# Altium schematic symbol library IC.SchLib: 86 symbols
Pins are listed as number, name and electrical type; pins without a type are passive.

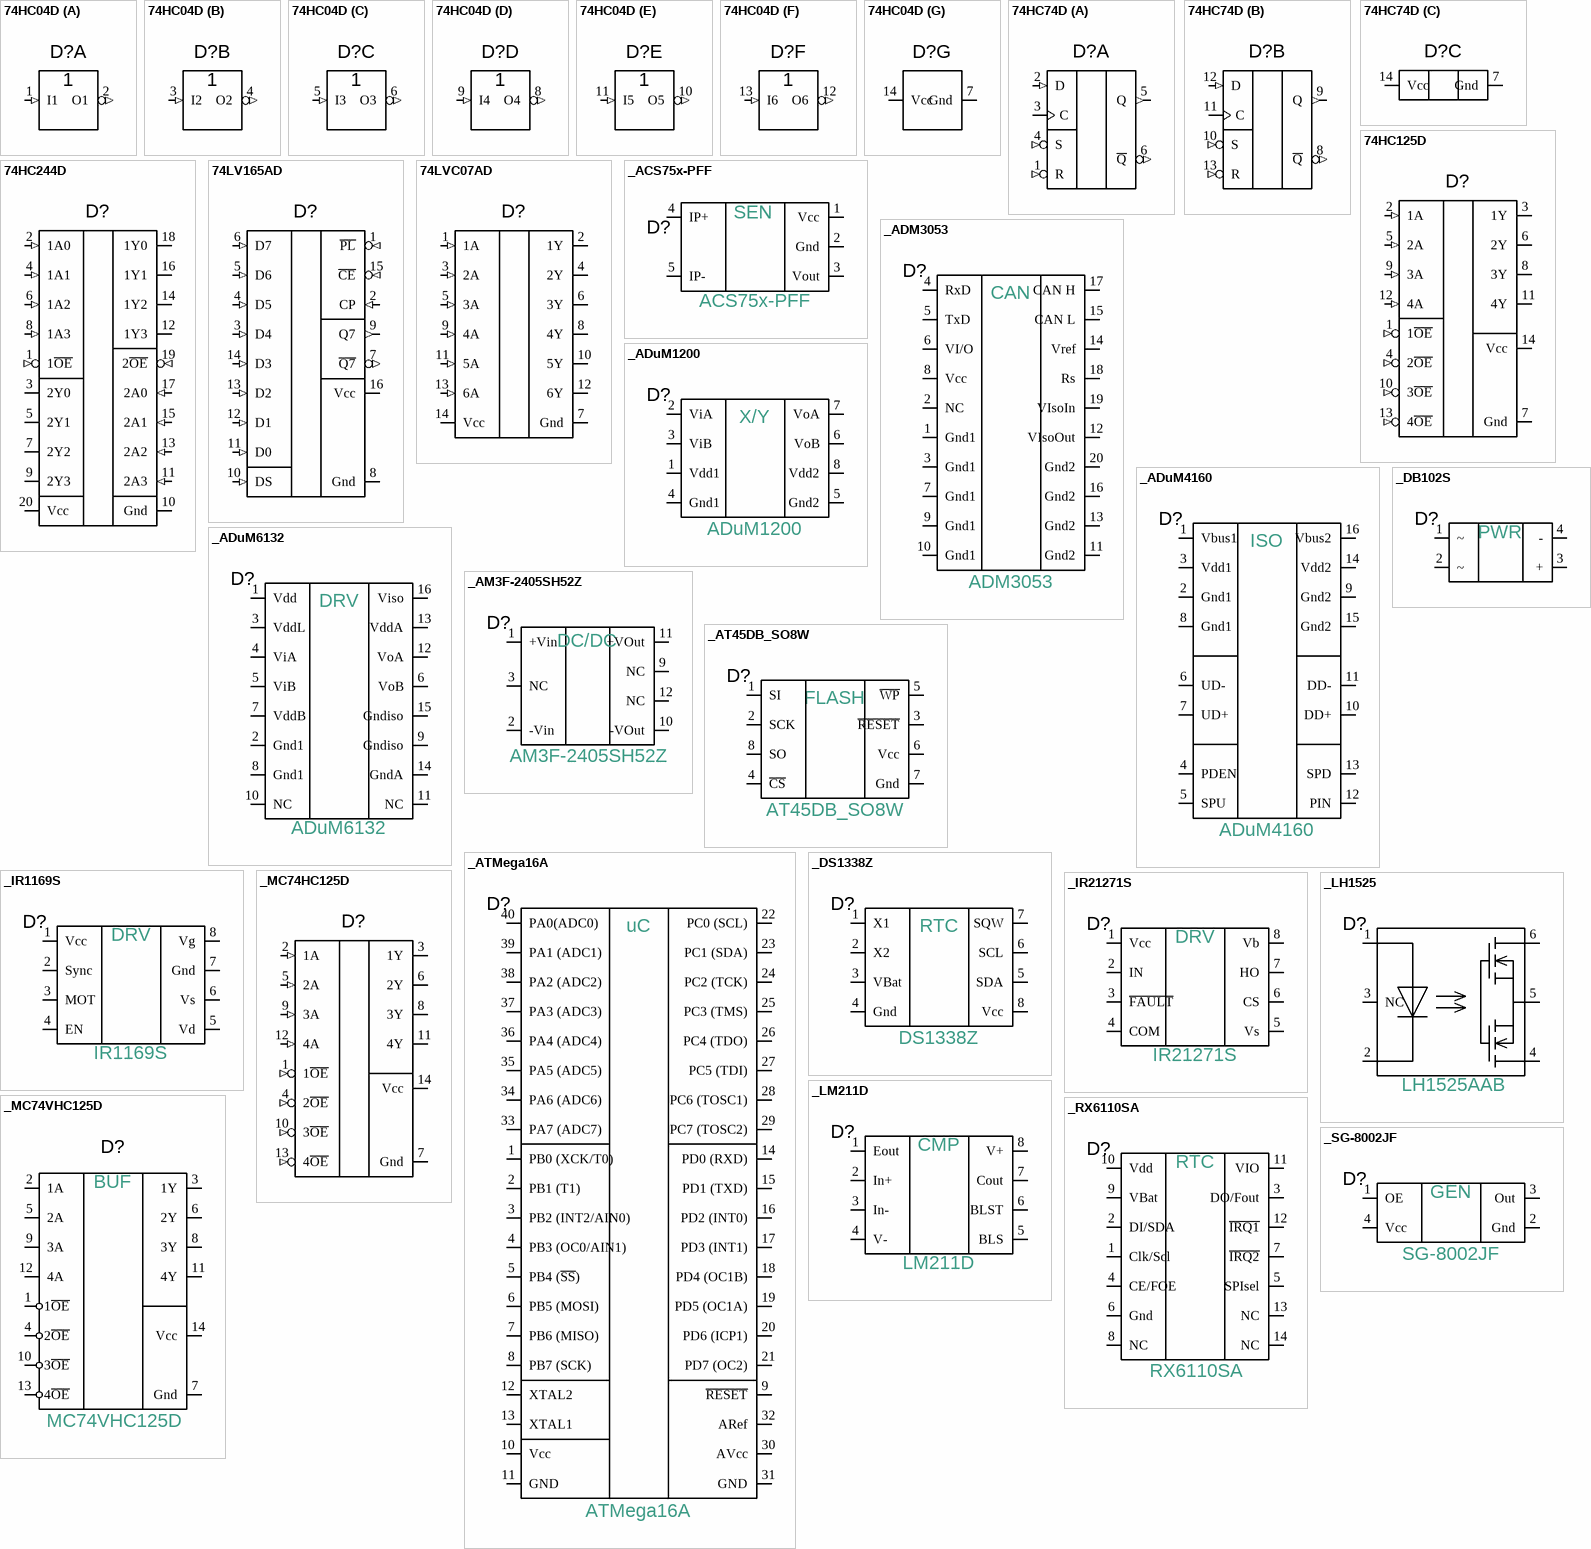
[diagram p0: symbols 74HC04D to _SG-8002JF]

## 74HC04D
designator D?
part A pins: 1 I1 (in), 2 O1 (out)
part B pins: 3 I2 (in), 4 O2 (out)
part C pins: 5 I3 (in), 6 O3 (out)
part D pins: 8 O4 (out), 9 I4 (in)
part E pins: 10 O5 (out), 11 I5 (in)
part F pins: 12 O6 (out), 13 I6 (in)
part G pins: 7 Gnd (power), 14 Vcc (power)

## 74HC74D
designator D?
part A pins: 1 R (in), 2 D (in), 3 C, 4 S (in), 5 Q (out), 6 ~{Q} (out)
part B pins: 8 ~{Q} (out), 9 Q (out), 10 S (in), 11 C, 12 D (in), 13 R (in)
part C pins: 7 Gnd (power), 14 Vcc (power)

## 74HC125D
designator D?  (value not drawn)
pins: 1 1~{OE} (in), 2 1A (in), 3 1Y (hiz), 4 2~{OE} (in), 5 2A (in), 6 2Y (hiz), 7 Gnd (power), 8 3Y (hiz), 9 3A (in), 10 3~{OE} (in), 11 4Y (hiz), 12 4A (in), 13 4~{OE} (in), 14 Vcc (power)

## 74HC244D
designator D?  (value not drawn)
pins: 1 1~{OE} (in), 2 1A0 (in), 3 2Y0 (hiz), 4 1A1 (in), 5 2Y1 (hiz), 6 1A2 (in), 7 2Y2 (hiz), 8 1A3 (in), 9 2Y3 (hiz), 10 Gnd (power), 11 2A3 (in), 12 1Y3 (hiz), 13 2A2 (in), 14 1Y2 (hiz), 15 2A1 (in), 16 1Y1 (hiz), 17 2A0 (in), 18 1Y0 (hiz), 19 2~{OE} (in), 20 Vcc (power)

## 74LV165AD
designator D?
pins: 1 ~{PL} (in), 2 CP (in), 3 D4 (in), 4 D5 (in), 5 D6 (in), 6 D7 (in), 7 ~{Q7} (out), 8 Gnd (power), 9 Q7 (out), 10 DS (in), 11 D0 (in), 12 D1 (in), 13 D2 (in), 14 D3 (in), 15 ~{CE} (in), 16 Vcc (power)

## 74LVC07AD
designator D?  (value not drawn)
pins: 1 1A (in), 2 1Y (oc), 3 2A (in), 4 2Y (oc), 5 3A (in), 6 3Y (oc), 7 Gnd (power), 8 4Y (oc), 9 4A (in), 10 5Y (oc), 11 5A (in), 12 6Y (oc), 13 6A (in), 14 Vcc (power)

## _ACS75x-PFF
designator D?
pins: 1 Vcc, 2 Gnd, 3 Vout, 4 IP+, 5 IP-
text: SEN; ACS75x-PFF

## _ADM3053
designator D?
pins: 1 Gnd1, 2 NC, 3 Gnd1, 4 RxD, 5 TxD, 6 VI/O, 7 Gnd1, 8 Vcc, 9 Gnd1, 10 Gnd1, 11 Gnd2, 12 VIsoOut, 13 Gnd2, 14 Vref, 15 CAN L, 16 Gnd2, 17 CAN H, 18 Rs, 19 VIsoIn, 20 Gnd2
text: CAN; ADM3053

## _ADuM1200
designator D?
pins: 1 Vdd1, 2 ViA, 3 ViB, 4 Gnd1, 5 Gnd2, 6 VoB, 7 VoA, 8 Vdd2
text: X/Y; ADuM1200

## _ADuM4160
designator D?
pins: 1 Vbus1, 2 Gnd1, 3 Vdd1, 4 PDEN, 5 SPU, 6 UD-, 7 UD+, 8 Gnd1, 9 Gnd2, 10 DD+, 11 DD-, 12 PIN, 13 SPD, 14 Vdd2, 15 Gnd2, 16 Vbus2
text: ISO; ADuM4160

## _ADuM6132
designator D?
pins: 1 Vdd, 2 Gnd1, 3 VddL, 4 ViA, 5 ViB, 6 VoB, 7 VddB, 8 Gnd1, 9 Gndiso, 10 NC, 11 NC, 12 VoA, 13 VddA, 14 GndA, 15 Gndiso, 16 Viso
text: DRV; ADuM6132

## _AM3F-2405SH52Z
designator D?
pins: 1 +Vin, 2 -Vin, 3 NC, 9 NC, 10 -VOut, 11 +VOut, 12 NC
text: DC/DC; AM3F-2405SH52Z

## _AT45DB_SO8W
designator D?
pins: 1 SI, 2 SCK, 3 ~{RESET}, 4 ~{CS}, 5 ~{WP}, 6 Vcc, 7 Gnd, 8 SO
text: FLASH; AT45DB_SO8W

## _ATMega16A
designator D?
pins: 1 PB0 (XCK/T0), 2 PB1 (T1), 3 PB2 (INT2/AIN0), 4 PB3 (OC0/AIN1), 5 PB4 (~{SS}), 6 PB5 (MOSI), 7 PB6 (MISO), 8 PB7 (SCK), 9 ~{RESET}, 10 Vcc, 11 GND, 12 XTAL2, 13 XTAL1, 14 PD0 (RXD), 15 PD1 (TXD), 16 PD2 (INT0), 17 PD3 (INT1), 18 PD4 (OC1B), 19 PD5 (OC1A), 20 PD6 (ICP1), 21 PD7 (OC2), 22 PC0 (SCL), 23 PC1 (SDA), 24 PC2 (TCK), 25 PC3 (TMS), 26 PC4 (TDO), 27 PC5 (TDI), 28 PC6 (TOSC1), 29 PC7 (TOSC2), 30 AVcc, 31 GND, 32 ARef, 33 PA7 (ADC7), 34 PA6 (ADC6), 35 PA5 (ADC5), 36 PA4 (ADC4), 37 PA3 (ADC3), 38 PA2 (ADC2), 39 PA1 (ADC1), 40 PA0(ADC0)
text: uC; ATMega16A

## _DB102S
designator D?  (value not drawn)
pins: 1 ~, 2 ~, 3 +, 4 -
text: PWR

## _DS1338Z
designator D?
pins: 1 X1, 2 X2, 3 VBat, 4 Gnd, 5 SDA, 6 SCL, 7 SQW, 8 Vcc
text: RTC; DS1338Z

## _IR1169S
designator D?
pins: 1 Vcc, 2 Sync, 3 MOT, 4 EN, 5 Vd, 6 Vs, 7 Gnd, 8 Vg
text: DRV; IR1169S

## _IR21271S
designator D?
pins: 1 Vcc, 2 IN, 3 ~{FAULT}, 4 COM, 5 Vs, 6 CS, 7 HO, 8 Vb
text: DRV; IR21271S

## _LH1525
designator D?
pins: 1 A, 2 K, 3 NC, 4 S', 5 DC, 6 S
text: LH1525AAB

## _LM211D
designator D?
pins: 1 Eout, 2 In+, 3 In-, 4 V-, 5 BLS, 6 BLST, 7 Cout, 8 V+
text: CMP; LM211D

## _MC74HC125D
designator D?
pins: 1 1~{OE} (in), 2 1A (in), 3 1Y (hiz), 4 2~{OE} (in), 5 2A (in), 6 2Y (hiz), 7 Gnd (power), 8 3Y (hiz), 9 3A (in), 10 3~{OE} (in), 11 4Y (hiz), 12 4A (in), 13 4~{OE} (in), 14 Vcc (power)

## _MC74VHC125D
designator D?
pins: 1 1~{OE}, 2 1A, 3 1Y, 4 2~{OE}, 5 2A, 6 2Y, 7 Gnd, 8 3Y, 9 3A, 10 3~{OE}, 11 4Y, 12 4A, 13 4~{OE}, 14 Vcc
text: BUF; MC74VHC125D

## _RX6110SA
designator D?
pins: 1 Clk/Scl, 2 DI/SDA, 3 DO/Fout, 4 CE/FOE, 5 SPIsel, 6 Gnd, 7 ~{IRQ2}, 8 NC, 9 VBat, 10 Vdd, 11 VIO, 12 ~{IRQ1}, 13 NC, 14 NC
text: RTC; RX6110SA

## _SG-8002JF
designator D?
pins: 1 OE, 2 Gnd, 3 Out, 4 Vcc
text: GEN; SG-8002JF

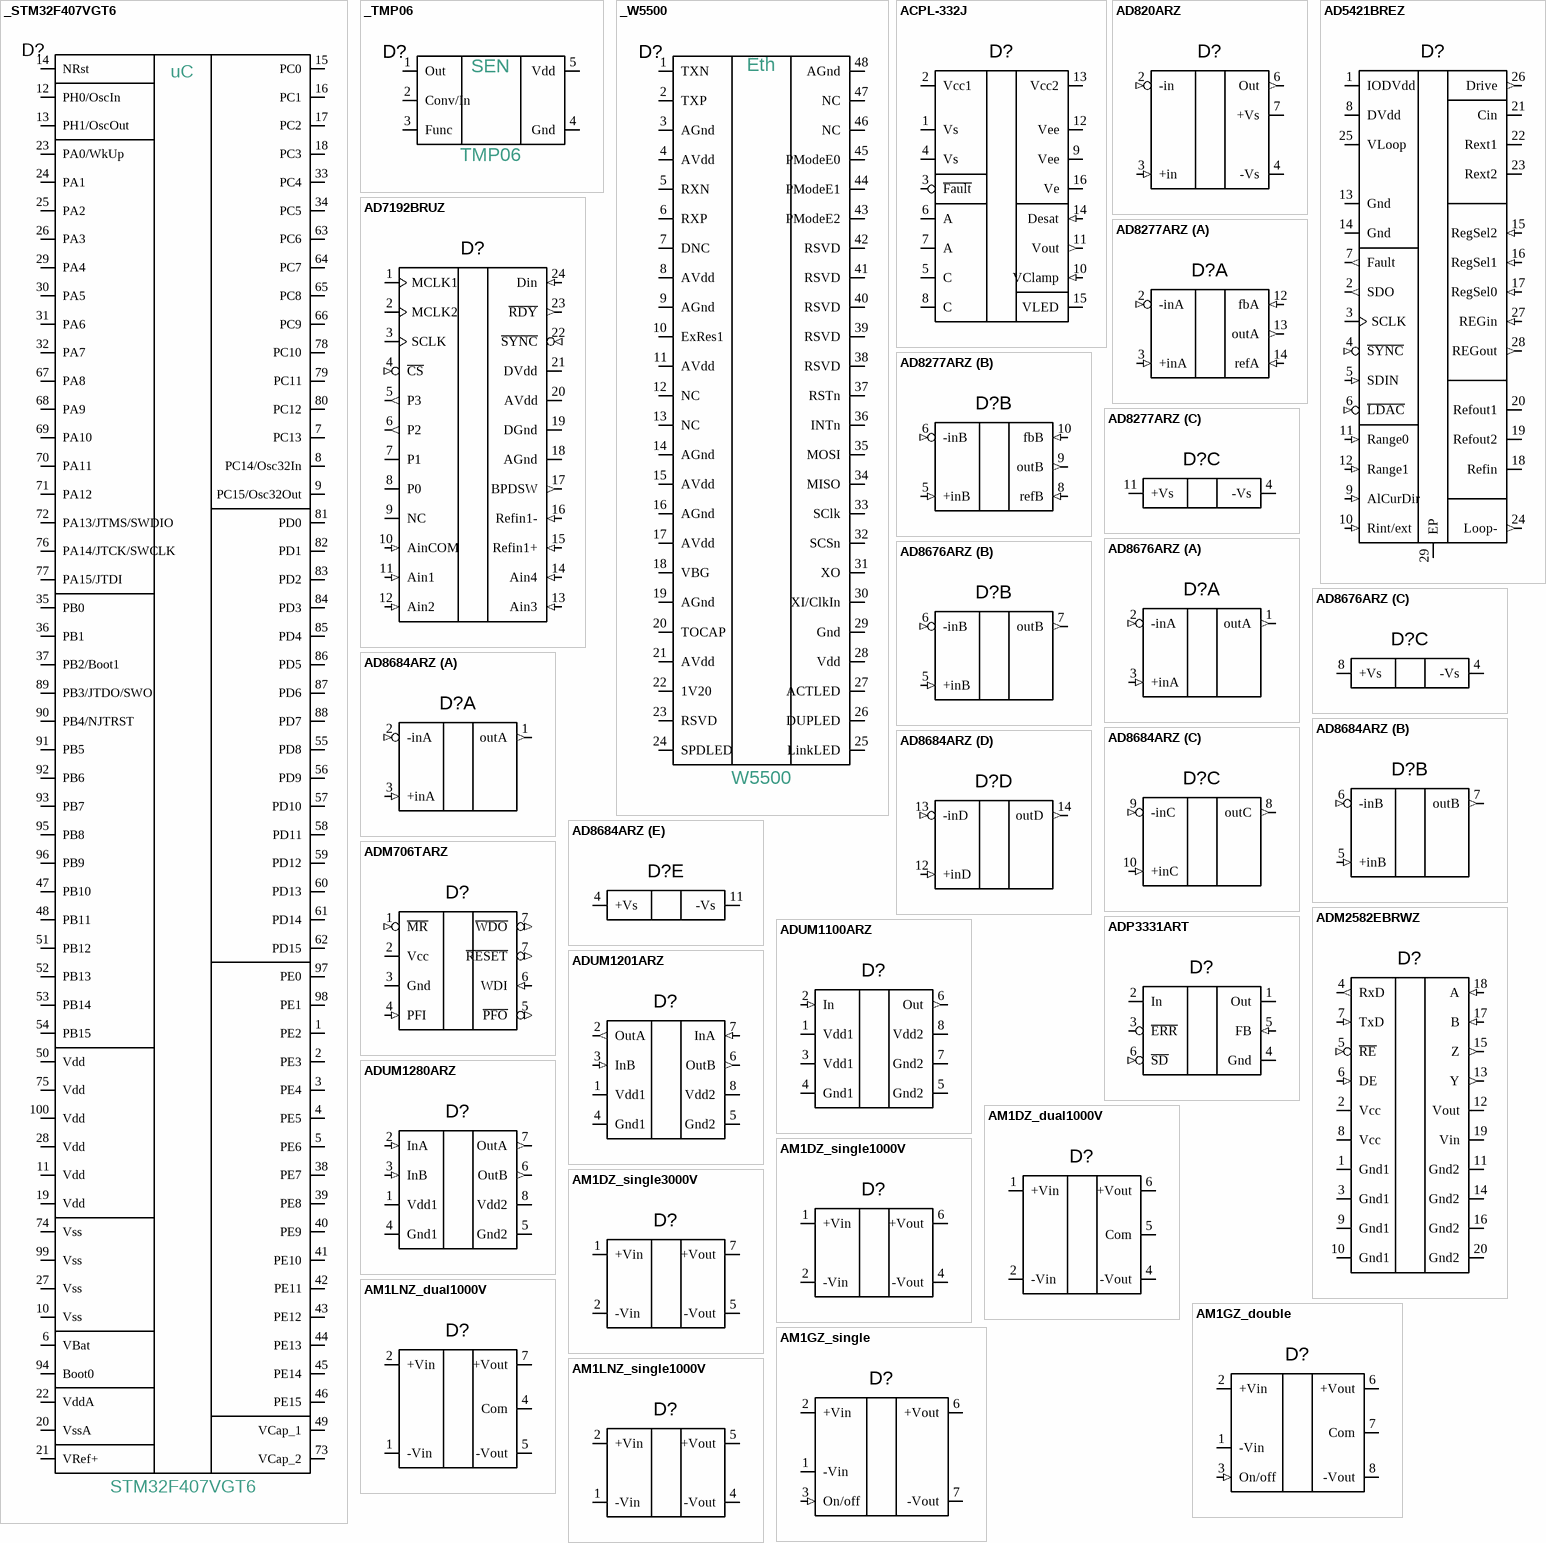
[diagram p1: symbols _STM32F407VGT6 to AM1LNZ_single1000V]

## _STM32F407VGT6
designator D?
pins: 1 PE2, 2 PE3, 3 PE4, 4 PE5, 5 PE6, 6 VBat, 7 PC13, 8 PC14/Osc32In, 9 PC15/Osc32Out, 10 Vss, 11 Vdd, 12 PH0/OscIn, 13 PH1/OscOut, 14 NRst, 15 PC0, 16 PC1, 17 PC2, 18 PC3, 19 Vdd, 20 VssA, 21 VRef+, 22 VddA, 23 PA0/WkUp, 24 PA1, 25 PA2, 26 PA3, 27 Vss, 28 Vdd, 29 PA4, 30 PA5, 31 PA6, 32 PA7, 33 PC4, 34 PC5, 35 PB0, 36 PB1, 37 PB2/Boot1, 38 PE7, 39 PE8, 40 PE9, 41 PE10, 42 PE11, 43 PE12, 44 PE13, 45 PE14, 46 PE15, 47 PB10, 48 PB11, 49 VCap_1, 50 Vdd, 51 PB12, 52 PB13, 53 PB14, 54 PB15, 55 PD8, 56 PD9, 57 PD10, 58 PD11, 59 PD12, 60 PD13, 61 PD14, 62 PD15, 63 PC6, 64 PC7, 65 PC8, 66 PC9, 67 PA8, 68 PA9, 69 PA10, 70 PA11, 71 PA12, 72 PA13/JTMS/SWDIO, 73 VCap_2, 74 Vss, 75 Vdd, 76 PA14/JTCK/SWCLK, 77 PA15/JTDI, 78 PC10, 79 PC11, 80 PC12, 81 PD0, 82 PD1, 83 PD2, 84 PD3, 85 PD4, 86 PD5, 87 PD6, 88 PD7, 89 PB3/JTDO/SWO, 90 PB4/NJTRST, 91 PB5, 92 PB6, 93 PB7, 94 Boot0, 95 PB8, 96 PB9, 97 PE0, 98 PE1, 99 Vss, 100 Vdd
text: uC; STM32F407VGT6

## _TMP06
designator D?
pins: 1 Out, 2 Conv/In, 3 Func, 4 Gnd, 5 Vdd
text: SEN; TMP06

## _W5500
designator D?
pins: 1 TXN, 2 TXP, 3 AGnd, 4 AVdd, 5 RXN, 6 RXP, 7 DNC, 8 AVdd, 9 AGnd, 10 ExRes1, 11 AVdd, 12 NC, 13 NC, 14 AGnd, 15 AVdd, 16 AGnd, 17 AVdd, 18 VBG, 19 AGnd, 20 TOCAP, 21 AVdd, 22 1V20, 23 RSVD, 24 SPDLED, 25 LinkLED, 26 DUPLED, 27 ACTLED, 28 Vdd, 29 Gnd, 30 XI/ClkIn, 31 XO, 32 SCSn, 33 SClk, 34 MISO, 35 MOSI, 36 INTn, 37 RSTn, 38 RSVD, 39 RSVD, 40 RSVD, 41 RSVD, 42 RSVD, 43 PModeE2, 44 PModeE1, 45 PModeE0, 46 NC, 47 NC, 48 AGnd
text: Eth; W5500

## ACPL-332J
designator D?
pins: 1 Vs (power), 2 Vcc1 (power), 3 ~{Fault} (oc), 4 Vs (power), 5 C, 6 A, 7 A, 8 C, 9 Vee (power), 10 VClamp (in), 11 Vout (out), 12 Vee (power), 13 Vcc2 (power), 14 Desat (in), 15 VLED, 16 Ve (power)

## AD820ARZ
designator D?  (value not drawn)
pins: 2 -in (in), 3 +in (in), 4 -Vs (power), 6 Out (out), 7 +Vs (power)

## AD5421BREZ
designator D?  (value not drawn)
pins: 1 IODVdd (power), 2 SDO (out), 3 SCLK, 4 ~{SYNC} (in), 5 SDIN (in), 6 ~{LDAC} (in), 7 Fault (out), 8 DVdd (power), 9 AlCurDir (in), 10 Rint/ext (in), 11 Range0 (in), 12 Range1 (in), 13 Gnd (power), 14 Gnd (power), 15 RegSel2 (in), 16 RegSel1 (in), 17 RegSel0 (in), 18 Refin (power), 19 Refout2 (power), 20 Refout1 (power), 21 Cin, 22 Rext1, 23 Rext2, 24 Loop- (out), 25 VLoop (power), 26 Drive (out), 27 REGin (in), 28 REGout (out), 29 EP (power)

## AD7192BRUZ
designator D?  (value not drawn)
ComponentLink1URL: E:\Books\Programming\OS\info.txt; ComponentLink1Description: info
pins: 1 MCLK1, 2 MCLK2 (io), 3 SCLK, 4 ~{CS} (in), 5 P3 (out), 6 P2 (out), 7 P1 (io), 8 P0 (io), 9 NC, 10 AinCOM (in), 11 Ain1 (in), 12 Ain2 (in), 13 Ain3 (in), 14 Ain4 (in), 15 Refin1+ (in), 16 Refin1- (in), 17 BPDSW (out), 18 AGnd (power), 19 DGnd (power), 20 AVdd (power), 21 DVdd (power), 22 ~{SYNC} (in), 23 ~{RDY} (out), 24 Din (in)

## AD8277ARZ
designator D?  (value not drawn)
part A pins: 2 -inA (in), 3 +inA (in), 12 fbA (in), 13 outA (out), 14 refA (in)
part B pins: 5 +inB (in), 6 -inB (in), 8 refB (in), 9 outB (out), 10 fbB (in)
part C pins: 4 -Vs (power), 11 +Vs (power)

## AD8676ARZ
designator D?  (value not drawn)
part A pins: 1 outA (out), 2 -inA (in), 3 +inA (in)
part B pins: 5 +inB (in), 6 -inB (in), 7 outB (out)
part C pins: 4 -Vs (power), 8 +Vs (power)

## AD8684ARZ
designator D?  (value not drawn)
part A pins: 1 outA (out), 2 -inA (in), 3 +inA (in)
part B pins: 5 +inB (in), 6 -inB (in), 7 outB (out)
part C pins: 8 outC (out), 9 -inC (in), 10 +inC (in)
part D pins: 12 +inD (in), 13 -inD (in), 14 outD (out)
part E pins: 4 +Vs (power), 11 -Vs (power)

## ADM706TARZ
designator D?  (value not drawn)
pins: 1 ~{MR} (in), 2 Vcc (power), 3 Gnd (power), 4 PFI (in), 5 ~{PFO} (out), 6 WDI (in), 7 ~{RESET} (out), 7 ~{WDO} (out)

## ADM2582EBRWZ
designator D?
pins: 1 Gnd1 (power), 2 Vcc (power), 3 Gnd1 (power), 4 RxD (out), 5 ~{RE} (in), 6 DE (in), 7 TxD (in), 8 Vcc (power), 9 Gnd1 (power), 10 Gnd1 (power), 11 Gnd2 (power), 12 Vout (power), 13 Y (out), 14 Gnd2 (power), 15 Z (out), 16 Gnd2 (power), 17 B (in), 18 A (in), 19 Vin (power), 20 Gnd2 (power)

## ADP3331ART
designator D?  (value not drawn)
pins: 1 Out (power), 2 In (power), 3 ~{ERR} (oc), 4 Gnd (power), 5 FB (in), 6 ~{SD} (in)

## ADUM1100ARZ
designator D?  (value not drawn)
pins: 1 Vdd1 (power), 2 In (in), 3 Vdd1 (power), 4 Gnd1 (power), 5 Gnd2 (power), 6 Out (out), 7 Gnd2 (power), 8 Vdd2 (power)

## ADUM1201ARZ
designator D?
pins: 1 Vdd1 (power), 2 OutA (out), 3 InB (in), 4 Gnd1 (power), 5 Gnd2 (power), 6 OutB (out), 7 InA (in), 8 Vdd2 (power)

## ADUM1280ARZ
designator D?  (value not drawn)
pins: 1 Vdd1 (power), 2 InA (in), 3 InB (in), 4 Gnd1 (power), 5 Gnd2 (power), 6 OutB (out), 7 OutA (out), 8 Vdd2 (power)

## AM1DZ_dual1000V
designator D?
pins: 1 +Vin (power), 2 -Vin (power), 4 -Vout (power), 5 Com (power), 6 +Vout (power)

## AM1DZ_single1000V
designator D?
pins: 1 +Vin (power), 2 -Vin (power), 4 -Vout (power), 6 +Vout (power)

## AM1DZ_single3000V
designator D?
pins: 1 +Vin (power), 2 -Vin (power), 5 -Vout (power), 7 +Vout (power)

## AM1GZ_double
designator D?
pins: 1 -Vin (power), 2 +Vin (power), 3 On/off (in), 6 +Vout (power), 7 Com (power), 8 -Vout (power)

## AM1GZ_single
designator D?
pins: 1 -Vin (power), 2 +Vin (power), 3 On/off (in), 6 +Vout (power), 7 -Vout (power)

## AM1LNZ_dual1000V
designator D?
pins: 1 -Vin (power), 2 +Vin (power), 4 Com (power), 5 -Vout (power), 7 +Vout (power)

## AM1LNZ_single1000V
designator D?
pins: 1 -Vin (power), 2 +Vin (power), 4 -Vout (power), 5 +Vout (power)

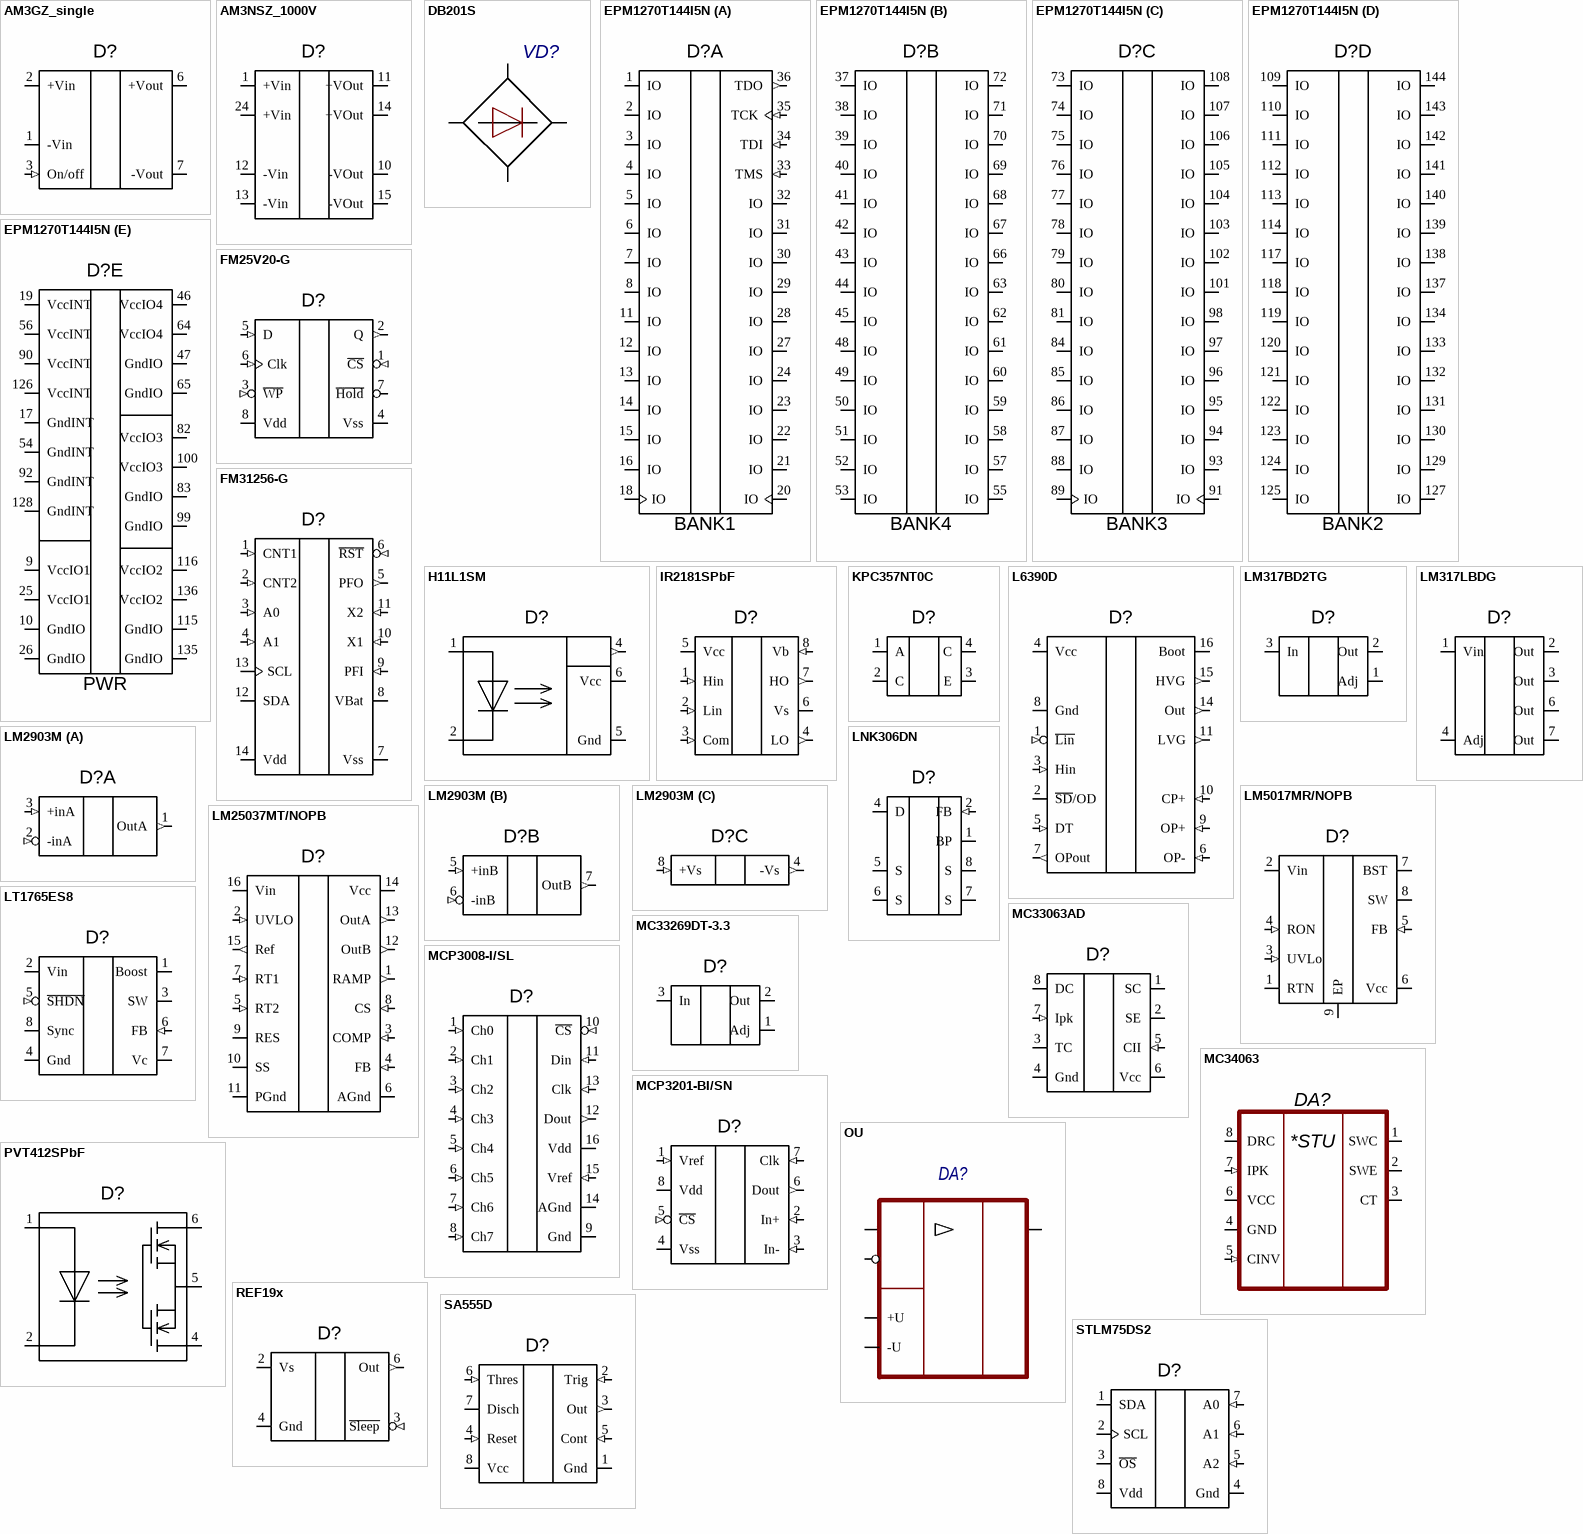
[diagram p2: symbols AM3GZ_single to STLM75DS2]

## AM3GZ_single
designator D?  (value not drawn)
pins: 1 -Vin (power), 2 +Vin (power), 3 On/off (in), 6 +Vout (power), 7 -Vout (power)

## AM3NSZ_1000V
designator D?  (value not drawn)
pins: 1 +Vin, 10 -VOut, 11 +VOut, 12 -Vin, 13 -Vin, 14 +VOut, 15 -VOut, 24 +Vin

## DB201S
designator VD?  (value not drawn)
footprint DIOB_DB107S
pins: 1 B, 2 D, NEG A, POS C

## EPM1270T144I5N
designator D?  (value not drawn)
part A pins: 1 IO (io), 2 IO (io), 3 IO (io), 4 IO (io), 5 IO (io), 6 IO (io), 7 IO (io), 8 IO (io), 11 IO (io), 12 IO (io), 13 IO (io), 14 IO (io), 15 IO (io), 16 IO (io), 18 IO (io), 20 IO (io), 21 IO (io), 22 IO (io), 23 IO (io), 24 IO (io), 27 IO (io), 28 IO (io), 29 IO (io), 30 IO (io), 31 IO (io), 32 IO (io), 33 TMS (in), 34 TDI (in), 35 TCK (in), 36 TDO (out)
part B pins: 37 IO (io), 38 IO (io), 39 IO (io), 40 IO (io), 41 IO (io), 42 IO (io), 43 IO (io), 44 IO (io), 45 IO (io), 48 IO (io), 49 IO (io), 50 IO (io), 51 IO (io), 52 IO (io), 53 IO (io), 55 IO (io), 57 IO (io), 58 IO (io), 59 IO (io), 60 IO (io), 61 IO (io), 62 IO (io), 63 IO (io), 66 IO (io), 67 IO (io), 68 IO (io), 69 IO (io), 70 IO (io), 71 IO (io), 72 IO (io)
part C pins: 73 IO (io), 74 IO (io), 75 IO (io), 76 IO (io), 77 IO (io), 78 IO (io), 79 IO (io), 80 IO (io), 81 IO (io), 84 IO (io), 85 IO (io), 86 IO (io), 87 IO (io), 88 IO (io), 89 IO (io), 91 IO (io), 93 IO (io), 94 IO (io), 95 IO (io), 96 IO (io), 97 IO (io), 98 IO (io), 101 IO (io), 102 IO (io), 103 IO (io), 104 IO (io), 105 IO (io), 106 IO (io), 107 IO (io), 108 IO (io)
part D pins: 109 IO (io), 110 IO (io), 111 IO (io), 112 IO (io), 113 IO (io), 114 IO (io), 117 IO (io), 118 IO (io), 119 IO (io), 120 IO (io), 121 IO (io), 122 IO (io), 123 IO (io), 124 IO (io), 125 IO (io), 127 IO (io), 129 IO (io), 130 IO (io), 131 IO (io), 132 IO (io), 133 IO (io), 134 IO (io), 137 IO (io), 138 IO (io), 139 IO (io), 140 IO (io), 141 IO (io), 142 IO (io), 143 IO (io), 144 IO (io)
part E pins: 9 VccIO1 (power), 10 GndIO (power), 17 GndINT (power), 19 VccINT (power), 25 VccIO1 (power), 26 GndIO (power), 46 VccIO4 (power), 47 GndIO (power), 54 GndINT (power), 56 VccINT (power), 64 VccIO4 (power), 65 GndIO (power), 82 VccIO3 (power), 83 GndIO (power), 90 VccINT (power), 92 GndINT (power), 99 GndIO (power), 100 VccIO3 (power), 115 GndIO (power), 116 VccIO2 (power), 126 VccINT (power), 128 GndINT (power), 135 GndIO (power), 136 VccIO2 (power)
part A text: BANK1
part B text: BANK4
part C text: BANK3
part D text: BANK2
part E text: PWR

## FM25V20-G
designator D?
pins: 1 ~{CS} (in), 2 Q (out), 3 ~{WP} (in), 4 Vss (power), 5 D (in), 6 Clk (in), 7 ~{Hold}, 8 Vdd (power)

## FM31256-G
designator D?  (value not drawn)
pins: 1 CNT1 (in), 2 CNT2 (in), 3 A0 (in), 4 A1 (in), 5 PFO (out), 6 ~{RST} (in), 7 Vss (power), 8 VBat (power), 9 PFI (in), 10 X1 (in), 11 X2 (in), 12 SDA (oc), 13 SCL (io), 14 Vdd (power)

## H11L1SM
designator D?
pins: 1 A, 2 С, 4 (out), 5 Gnd (power), 6 Vcc (power)

## IR2181SPbF
designator D?  (value not drawn)
pins: 1 Hin (in), 2 Lin (in), 3 Com (in), 4 LO (out), 5 Vcc (power), 6 Vs (power), 7 HO (out), 8 Vb (in)

## KPC357NT0C
designator D?  (value not drawn)
pins: 1 A, 2 С, 3 E, 4 C

## L6390D
designator D?
pins: 1 ~{Lin} (in), 2 ~{SD}/OD (io), 3 Hin (in), 4 Vcc (power), 5 DT (in), 6 OP- (in), 7 OPout (out), 8 Gnd (power), 9 OP+ (in), 10 CP+ (in), 11 LVG (out), 14 Out (out), 15 HVG (out), 16 Boot (power)

## LM317BD2TG
designator D?
pins: 1 Adj (power), 2 Out (power), 3 In (power)

## LM317LBDG
designator D?
pins: 1 Vin (power), 2 Out (power), 3 Out (power), 4 Adj (power), 6 Out (power), 7 Out (power)

## LM2903M
designator D?
part A pins: 1 OutA (out), 2 -inA (in), 3 +inA (in)
part B pins: 5 +inB (in), 6 -inB (in), 7 OutB (out)
part C pins: 4 -Vs (out), 8 +Vs (in)

## LM5017MR/NOPB
designator D?
pins: 1 RTN (power), 2 Vin (power), 3 UVLo (in), 4 RON (in), 5 FB (in), 6 Vcc (power), 7 BST, 8 SW (power), 9 EP

## LM25037MT/NOPB
designator D?  (value not drawn)
pins: 1 RAMP (out), 2 UVLO (in), 3 COMP (in), 4 FB (in), 5 RT2 (in), 6 AGnd (power), 7 RT1 (in), 8 CS (in), 9 RES, 10 SS, 11 PGnd (power), 12 OutB (out), 13 OutA (out), 14 Vcc (power), 15 Ref (out), 16 Vin (power)

## LNK306DN
designator D?
pins: 1 BP (power), 2 FB (in), 4 D (power), 5 S (power), 6 S (power), 7 S (power), 8 S (power)

## LT1765ES8
designator D?  (value not drawn)
pins: 1 Boost, 2 Vin (power), 3 SW (power), 4 Gnd (power), 5 ~{SHDN} (in), 6 FB (in), 7 Vc (power), 8 Sync

## MC33063AD
designator D?
pins: 1 SC (power), 2 SE (power), 3 TC, 4 Gnd (power), 5 CII (in), 6 Vcc (power), 7 Ipk (in), 8 DC (power)

## MC33269DT-3.3
designator D?
pins: 1 Adj (power), 2 Out (power), 3 In (power)

## MC34063
designator DA?
footprint SO8 (SOIC, 8-Leads, Body 4.90x3.90mm, Pitch 1.27mm, IPC Medium Density)
pins: 1 SWC (power), 2 SWE (power), 3 CT, 4 GND (power), 5 CINV (in), 6 VCC (power), 7 IPK (in), 8 DRC (power)
text: *STU

## MCP3008-I/SL
designator D?
pins: 1 Ch0 (in), 2 Ch1 (in), 3 Ch2 (in), 4 Ch3 (in), 5 Ch4 (in), 6 Ch5 (in), 7 Ch6 (in), 8 Ch7 (in), 9 Gnd (power), 10 ~{CS} (in), 11 Din (in), 12 Dout (out), 13 Clk (in), 14 AGnd (power), 15 Vref (in), 16 Vdd (power)

## MCP3201-BI/SN
designator D?
pins: 1 Vref (in), 2 In+ (in), 3 In- (in), 4 Vss (power), 5 ~{CS} (in), 6 Dout (out), 7 Clk (in), 8 Vdd (power)

## OU
designator DA?  (value not drawn)
pins: 1 (power), 2 (power), 3 +U (power), 4 -U (power), 5 (power)

## PVT412SPbF
designator D?
pins: 1 A, 2 С, 4 S', 5 DC, 6 S

## REF19x
designator D?
pins: 2 Vs (power), 3 ~{Sleep} (in), 4 Gnd (power), 6 Out (out)

## SA555D
designator D?  (value not drawn)
pins: 1 Gnd (power), 2 Trig (in), 3 Out (out), 4 Reset (in), 5 Cont (in), 6 Thres (in), 7 Disch (oc), 8 Vcc (power)

## STLM75DS2
designator D?
pins: 1 SDA (oc), 2 SCL (io), 3 ~{OS} (oc), 4 Gnd (power), 5 A2 (in), 6 A1 (in), 7 A0 (in), 8 Vdd (power)

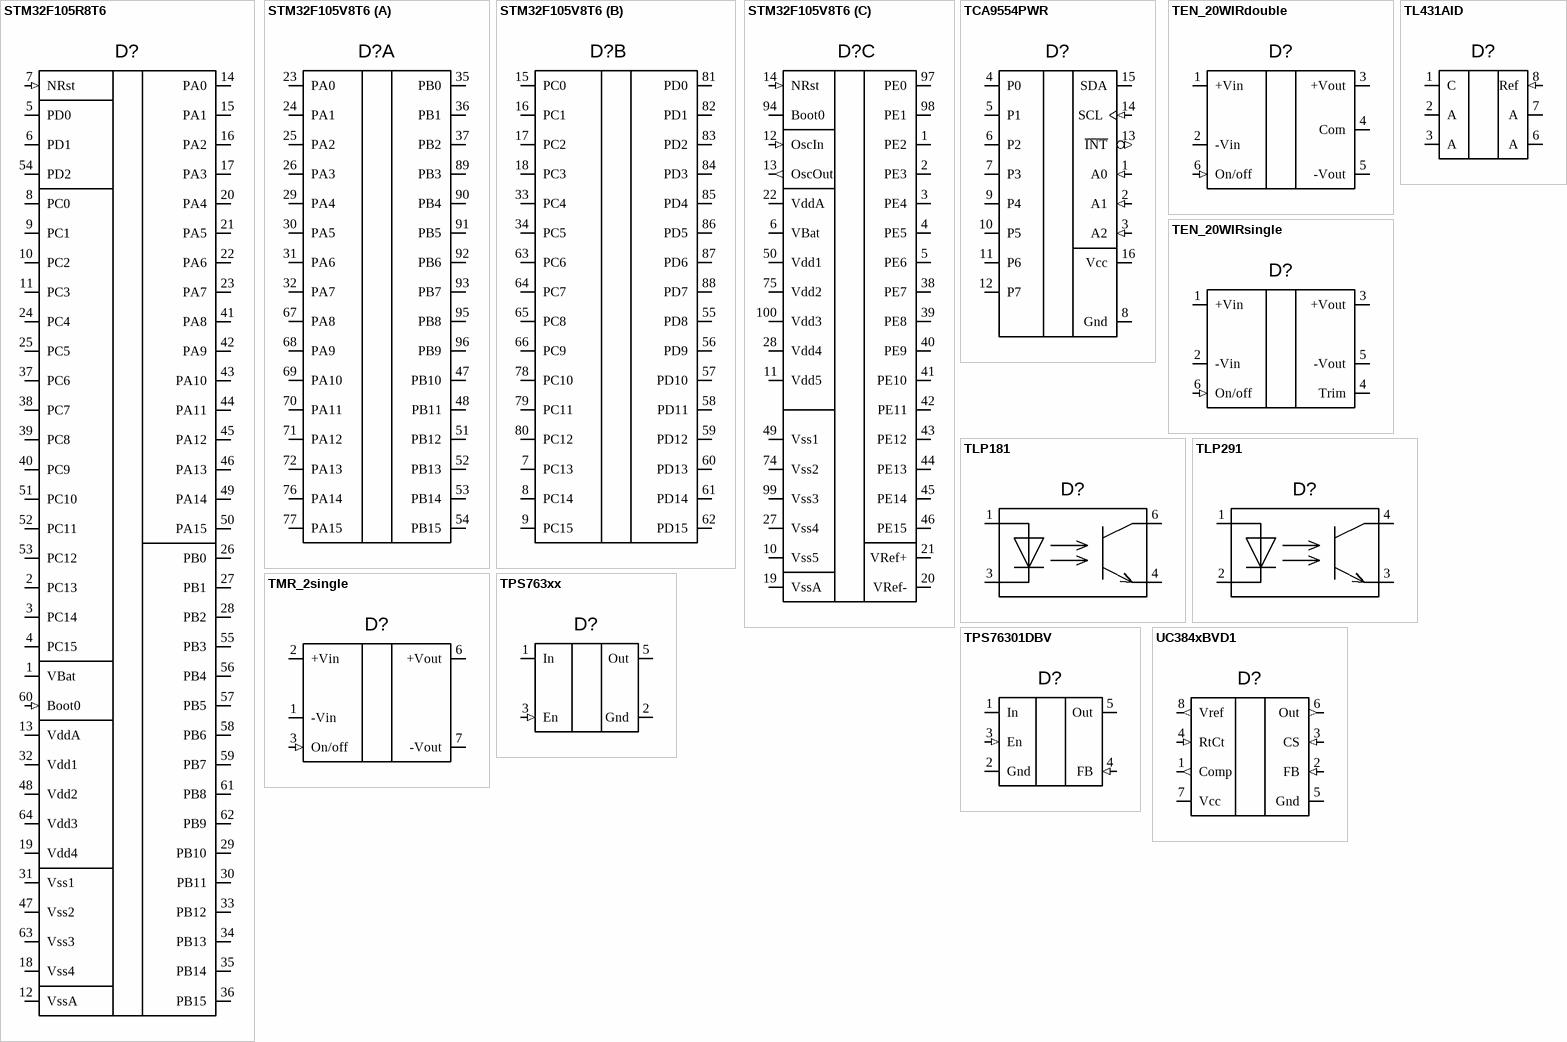
[diagram p3: symbols STM32F105R8T6 to UC384xBVD1]

## STM32F105R8T6
designator D?
pins: 1 VBat (power), 2 PC13 (io), 3 PC14 (io), 4 PC15 (io), 5 PD0 (io), 6 PD1 (io), 7 NRst (in), 8 PC0 (io), 9 PC1 (io), 10 PC2 (io), 11 PC3 (io), 12 VssA (power), 13 VddA (power), 14 PA0 (io), 15 PA1 (io), 16 PA2 (io), 17 PA3 (io), 18 Vss4 (power), 19 Vdd4 (power), 20 PA4 (io), 21 PA5 (io), 22 PA6 (io), 23 PA7 (io), 24 PC4 (io), 25 PC5 (io), 26 PB0 (io), 27 PB1 (io), 28 PB2 (io), 29 PB10 (io), 30 PB11 (io), 31 Vss1 (power), 32 Vdd1 (power), 33 PB12 (io), 34 PB13 (io), 35 PB14 (io), 36 PB15 (io), 37 PC6 (io), 38 PC7 (io), 39 PC8 (io), 40 PC9 (io), 41 PA8 (io), 42 PA9 (io), 43 PA10 (io), 44 PA11 (io), 45 PA12 (io), 46 PA13 (io), 47 Vss2 (power), 48 Vdd2 (power), 49 PA14 (io), 50 PA15 (io), 51 PC10 (io), 52 PC11 (io), 53 PC12 (io), 54 PD2 (io), 55 PB3 (io), 56 PB4 (io), 57 PB5 (io), 58 PB6 (io), 59 PB7 (io), 60 Boot0 (in), 61 PB8 (io), 62 PB9 (io), 63 Vss3 (power), 64 Vdd3 (power)

## STM32F105V8T6
designator D?
part A pins: 23 PA0 (io), 24 PA1 (io), 25 PA2 (io), 26 PA3 (io), 29 PA4 (io), 30 PA5 (io), 31 PA6 (io), 32 PA7 (io), 35 PB0 (io), 36 PB1 (io), 37 PB2 (io), 47 PB10 (io), 48 PB11 (io), 51 PB12 (io), 52 PB13 (io), 53 PB14 (io), 54 PB15 (io), 67 PA8 (io), 68 PA9 (io), 69 PA10 (io), 70 PA11 (io), 71 PA12 (io), 72 PA13 (io), 76 PA14 (io), 77 PA15 (io), 89 PB3 (io), 90 PB4 (io), 91 PB5 (io), 92 PB6 (io), 93 PB7 (io), 95 PB8 (io), 96 PB9 (io)
part B pins: 7 PC13 (io), 8 PC14 (io), 9 PC15 (io), 15 PC0 (io), 16 PC1 (io), 17 PC2 (io), 18 PC3 (io), 33 PC4 (io), 34 PC5 (io), 55 PD8 (io), 56 PD9 (io), 57 PD10 (io), 58 PD11 (io), 59 PD12 (io), 60 PD13 (io), 61 PD14 (io), 62 PD15 (io), 63 PC6 (io), 64 PC7 (io), 65 PC8 (io), 66 PC9 (io), 78 PC10 (io), 79 PC11 (io), 80 PC12 (io), 81 PD0 (io), 82 PD1 (io), 83 PD2 (io), 84 PD3 (io), 85 PD4 (io), 86 PD5 (io), 87 PD6 (io), 88 PD7 (io)
part C pins: 1 PE2 (io), 2 PE3 (io), 3 PE4 (io), 4 PE5 (io), 5 PE6 (io), 6 VBat (power), 10 Vss5 (power), 11 Vdd5 (power), 12 OscIn (in), 13 OscOut (out), 14 NRst (in), 19 VssA (power), 20 VRef- (power), 21 VRef+ (power), 22 VddA (power), 27 Vss4 (power), 28 Vdd4 (power), 38 PE7 (io), 39 PE8 (io), 40 PE9 (io), 41 PE10 (io), 42 PE11 (io), 43 PE12 (io), 44 PE13 (io), 45 PE14 (io), 46 PE15 (io), 49 Vss1 (power), 50 Vdd1 (power), 74 Vss2 (power), 75 Vdd2 (power), 94 Boot0, 97 PE0 (io), 98 PE1 (io), 99 Vss3 (power), 100 Vdd3 (power)

## TCA9554PWR
designator D?
pins: 1 A0 (in), 2 A1 (in), 3 A2 (in), 4 P0 (io), 5 P1 (io), 6 P2 (io), 7 P3 (io), 8 Gnd (power), 9 P4 (io), 10 P5 (io), 11 P6 (io), 12 P7 (io), 13 ~{INT} (out), 14 SCL (in), 15 SDA (io), 16 Vcc (power)

## TEN_20WIRdouble
designator D?
pins: 1 +Vin (power), 2 -Vin (power), 3 +Vout (power), 4 Com, 5 -Vout (power), 6 On/off (in)

## TEN_20WIRsingle
designator D?
pins: 1 +Vin (power), 2 -Vin (power), 3 +Vout (power), 4 Trim, 5 -Vout (power), 6 On/off (in)

## TL431AID
designator D?
pins: 1 C (power), 2 A (power), 3 A (power), 6 A (power), 7 A (power), 8 Ref (in)

## TLP181
designator D?
pins: 1 A, 3 C, 4 E, 6 C

## TLP291
designator D?
pins: 1 A, 2 C, 3 E, 4 C

## TMR_2single
designator D?
pins: 1 -Vin (power), 2 +Vin (power), 3 On/off (in), 6 +Vout (power), 7 -Vout (power)

## TPS763xx
designator D?
pins: 1 In (power), 2 Gnd (power), 3 En (in), 5 Out (power)

## TPS76301DBV
designator D?
pins: 1 In (power), 2 Gnd (power), 3 En (in), 4 FB (in), 5 Out (power)

## UC384xBVD1
designator D?  (value not drawn)
pins: 1 Comp (out), 2 FB (in), 3 CS (in), 4 RtCt (in), 5 Gnd (power), 6 Out (out), 7 Vcc (power), 8 Vref (out)